# EAGLE library part FSA642UMX (library FSA642UMX)
ON Semiconductor FSA642UMX, MIPI Switch TPDT 500Mbit/s, 2.65 4.3 V, 24-Pin UMLP Source: Datasheet <http://www.onsemi.com/pub/Collateral/FSA642-D.PDF>
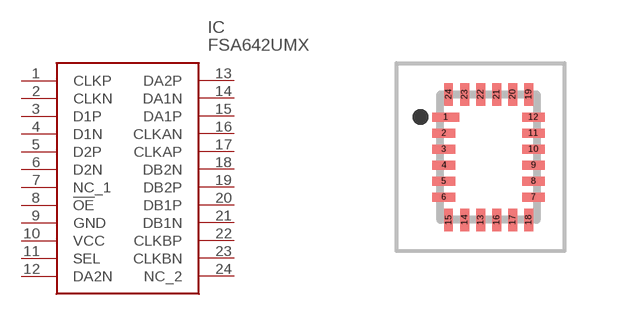
[diagram p0: symbol with the pads of FSA642UMX; footprint FSA642UMX]

Designator prefix IC

## FSA642UMX (Description: ON Semiconductor FSA642UMX, MIPI Switch TPDT 500Mbit/s, 2.65 4.3 V, 24-Pin UMLP; Height: 0.55mm; Manufacturer_Name: ON Semiconductor; Manufacturer_Part_Number: FSA642UMX; Mouser_Part_Number: 512-FSA642UMX; Mouser_Price-Stock: https://www.mouser.co.uk/ProductDetail/ON-Semiconductor-Fairchild/FSA642UMX?qs=zv9oXRM5khjFUsaII5WQoA%3D%3D)  [FSA642UMX]
1  CLKP
2  CLKN
3  D1P
4  D1N
5  D2P
6  D2N
7  NC_1
8  !OE
9  GND
10  VCC
11  SEL
12  DA2N
13  DA2P
14  DA1N
15  DA1P
16  CLKAN
17  CLKAP
18  DB2N
19  DB2P
20  DB1P
21  DB1N
22  CLKBP
23  CLKBN
24  NC_2

## Footprint FSA642UMX (pad centres in mm)
UQFN24 2.5x3.4, 0.4P CASE 523AX ISSUE A
smd 0.663 x 0.225: 1 -1.069,1
smd 0.563 x 0.225: 2 -1.119,0.6; 3 -1.119,0.2; 4 -1.119,-0.2; 5 -1.119,-0.6; 6 -1.119,-1; 7 1.119,-1; 8 1.119,-0.6; 9 1.119,-0.2; 10 1.119,0.2; 11 1.119,0.6; 12 1.119,1
smd 0.225 x 0.563: 13 -0.2,-1.569; 14 -0.6,-1.569; 15 -1,-1.569; 16 0.2,-1.569; 17 0.6,-1.569; 18 1,-1.569; 19 1,1.568; 20 0.6,1.568; 21 0.2,1.568; 22 -0.2,1.568; 23 -0.6,1.568; 24 -1,1.568